# EAGLE library part LDS-M514RI-RA (library RoboJackets-LEDs)
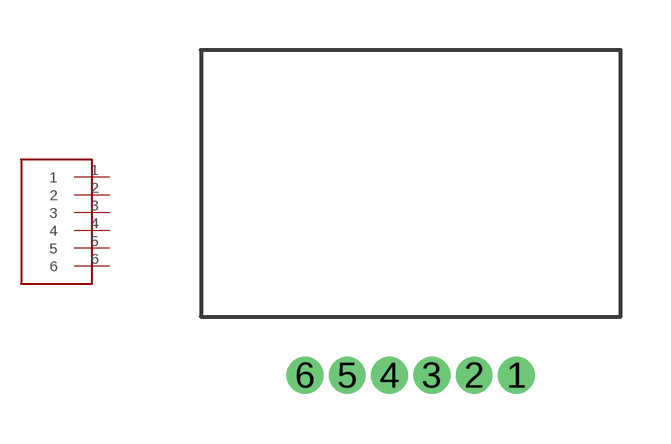
[diagram p0: symbol with the pads of LDS-M514RI-RA; footprint LDS-M514RI-RA]

Designator prefix -

## LDS-M514RI-RA  [LDS-M514RI-RA]
1  1
2  2
3  3
4  4
5  5
6  6

## Footprint LDS-M514RI-RA (pad centres in mm)
drill 0.6: 1 3.175,-5.753; 2 1.905,-5.753; 3 0.635,-5.753; 4 -0.635,-5.753; 5 -1.905,-5.753; 6 -3.175,-5.753